# EAGLE library part 614105150621 (library 632723100011_Eagle_WR-USB_rev19b)
WR-COM_USB_Micro Type AB_Vertical_THT; Micro Type AB Vertical THT - Tape & Reel not for Pick & Place machine Code : Con_I-O_COM_USB_2.0_AB_614105150621_614105150621 <http://katalog.we-online.de/media/images/eican/Con_I-O_COM_USB_2.0_AB_614105150621_pf2.jpg> Details see: http://katalog.we-online.de/em/datasheet/614105150621.pdf Created 12/08/2014, Dan Xu 2014 (C) Wurth Elektronik
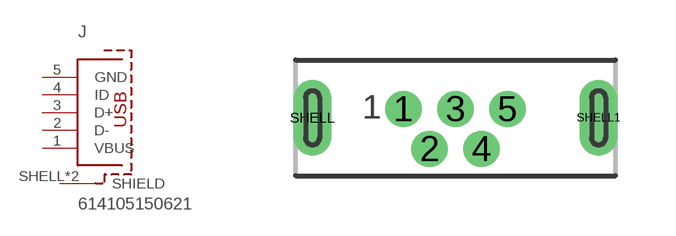
[diagram p145: symbol with the pads of 614105150621; footprint 614105150621]

Designator prefix J

## 614105150621  [614105150621]
1  VBUS  pas
2  D-  pas
3  D+  pas
4  ID  pas
5  GND  pas
SHELL  SHIELD  pas
SHELL1  SHIELD  pas

## Footprint 614105150621 (pad centres in mm)
614105150621 WR-COM_USB_Micro Type AB_Vertical_THT Micro Type AB Vertical THT - Tape & Reel not for Pick & Place machine
drill 0.4: 1 -1.3,0.22; 2 -0.65,-0.78; 3 0,0.22; 4 0.65,-0.78; 5 1.3,0.22
drill 0.35 pad 0.95 long: SHELL -3.575,0; SHELL1 3.575,0